# Altium footprint library SlaveBoardFootprints.PcbLib: 18 footprints (part 2 of 2)
Each footprint in its own frame and in the unit in brackets; x right, y up, seen from the top. Pads: shape width x height; smd on the part's side, far side on the other; paste and mask are expansions set on the pad; w line width, h text height; cw(c..) or ccw(c..) is an arc to the next point about the centre after c.
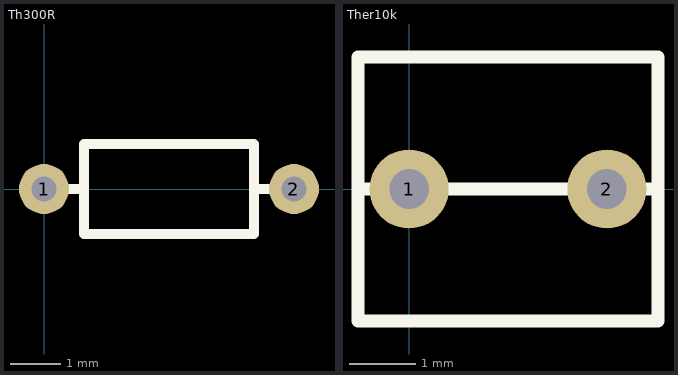
[diagram p1: the footprints below, top view; thin cyan lines are the x and y axes]

## Th300R [mm]
pads (2):
  round 1 hole 0.5: 1(0,0) 2(5,0)
Top Overlay:
  lines w0.2: 0,0 0.8,0 ; 4.2,0 5,0 ; 0.8,-0.9 4.2,-0.9 4.2,0.9 0.8,0.9 0.8,-0.9
3D body "CF18_v2.step": height 1.85, standoff 0, extent -0.2,-0.75 5.2,0.943

## Ther10k [mm]
pads (2):
  round 1.2 hole 0.6: 1(0,0) 2(3,0)
Top Overlay:
  lines w0.2: -0.775,0 1.8,0 ; 1.2,0 3.775,0 ; 3.775,0 3.775,-2 -0.775,-2 -0.775,2 3.775,2 3.775,0